# Altium integrated library EEUFR1V101B.IntLib: 1 symbol
Pins are listed as number, name and electrical type; pins without a type are passive.

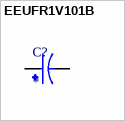
[diagram p0: symbol EEUFR1V101B]

## EEUFR1V101B
designator C?
AL LYTIC, RADIAL, 35VDC, 100UF; MP: EEUFR1V101B; MF: Panasonic; Value: *; Check_prices: https://www.snapeda.com/parts/EEUFR1V101B/Panasonic/view-part/5790218/?ref=eda; SnapEDA_Link: https://www.snapeda.com/parts/EEUFR1V101B/Panasonic/view-part/5790218/?ref=snap; Price: None; Availability: In Stock; Package: RADIAL-2 Panasonic
footprint CAPPRD350W60D800H1150
pins: N, P